# EAGLE library part TSL230RD (library MAÑE)
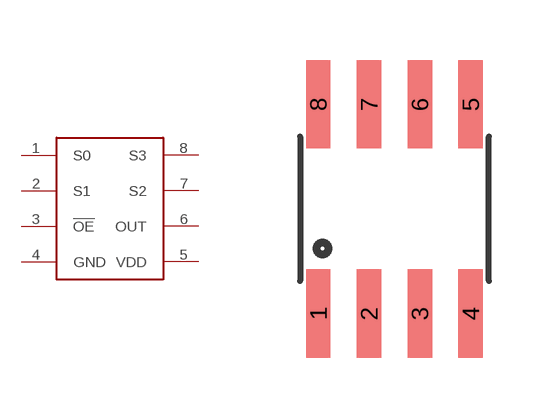
[diagram p2: symbol with the pads of SOIC8; footprint SOIC8]

Designator prefix -

## TSL230RD  [SOIC8]
1  S0
2  S1
3  !OE
4  GND
5  VDD
6  OUT
7  S2
8  S3

## Footprint SOIC8 (pad centres in mm)
smd 0.61 x 2.21: 1 -1.905,-2.616; 2 -0.635,-2.616; 3 0.635,-2.616; 4 1.905,-2.616; 5 1.905,2.616; 6 0.635,2.616; 7 -0.635,2.616; 8 -1.905,2.616